# EAGLE library part EE020-TYPE-2 (library pulse-eng)
POWER TRANSFORMER
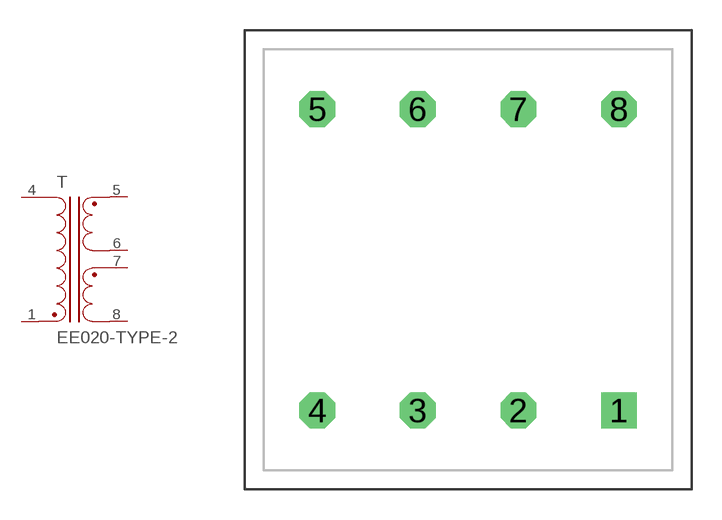
[diagram p1: symbol with the pads of EE020; footprint EE020]

Designator prefix T

## EE020-TYPE-2 (P1I: o)  [EE020]
1  1  pas
4  4  pas
5  5  pas
6  6  pas
7  7  pas
8  8  pas

## Footprint EE020 (pad centres in mm)
TYPE EE20 LAMINATED TRANSFORMER
drill 0.711 pad 1.778 square: 1 7.5,-7.5
drill 0.711 pad 1.778 octagon: 2 2.5,-7.5; 3 -2.5,-7.5; 4 -7.5,-7.5; 5 -7.5,7.5; 6 -2.5,7.5; 7 2.5,7.5; 8 7.5,7.5